# EAGLE library part MAX5712 (library zkseagle)
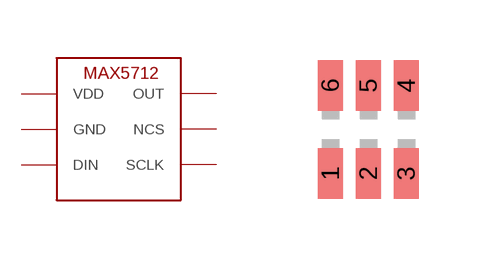
[diagram p15: symbol with the pads of SOT23-6; footprint SOT23-6]

Designator prefix -

## MAX5712  [SOT23-6]
1  VDD  pwr
2  GND  pwr
3  DIN  in
4  SCLK  in
5  NCS  in
6  OUT  out

## Footprint SOT23-6 (pad centres in mm)
Small Outline Transistor 223 PLASTIC PACKAGE CASE 318E-04 Source: http://www.onsemi.co.jp .. LM137M-D.PDF
smd 0.635 x 1.27: 1 -0.03,-0.06; 2 0.92,-0.06; 3 1.87,-0.06; 4 1.87,2.14; 5 0.92,2.14; 6 -0.03,2.14